# EAGLE library part FAN7380MX (library Fairchild_By_element14_Batch_1)
Half-Bridge Gate Driver
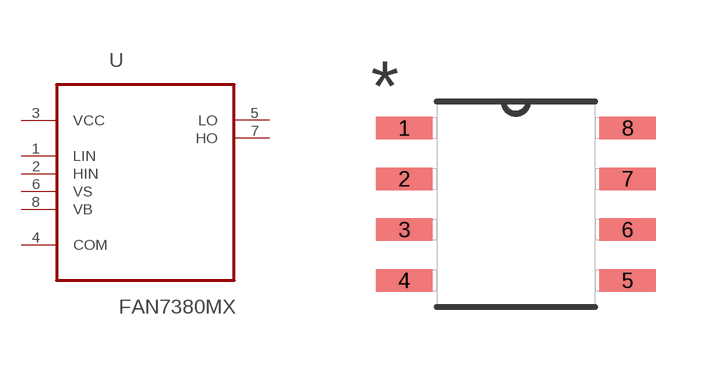
[diagram p182: symbol with the pads of SOP127P600X175-8N; footprint SOP127P600X175-8N]

Designator prefix U

## FAN7380MX (MPN: FAN7380MX; OC_FARNELL: 1241880; OC_NEWARK: 31K6736; PACKAGE: SOIC-8; SUPPLIER: FAIRCHILD SEMICONDUCTOR)  [SOP127P600X175-8N]
1  LIN  in
2  HIN  in
3  VCC  pwr
4  COM  pas
5  LO  out
6  VS  in
7  HO  out
8  VB  in

## Footprint SOP127P600X175-8N (pad centres in mm)
smd 1.422 x 0.559: 1 -2.794,1.905; 2 -2.794,0.635; 3 -2.794,-0.635; 4 -2.794,-1.905; 5 2.794,-1.905; 6 2.794,-0.635; 7 2.794,0.635; 8 2.794,1.905